# EAGLE library part AS-ITM-00069 (library tinycircuits)
CONN HEADER .100" 6POS TIN PCB
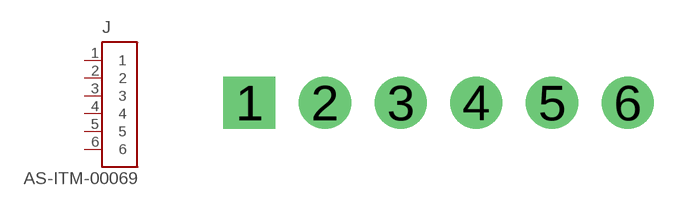
[diagram p23: symbol with the pads of 1X6_.1"_HEADER_M; footprint 1X6_.1"_HEADER_M]

Designator prefix J

## AS-ITM-00069 (PARTNO: AS-ITM-00069; VALUE: TS-106-T-A)  [1X6_.1"_HEADER_M]
1  1
2  2
3  3
4  4
5  5
6  6

## Footprint 1X6_.1"_HEADER_M (pad centres in mm)
drill 1 pad 1.75 square: 1 -6.35,0
drill 1 pad 1.75: 2 -3.81,0; 3 -1.27,0; 4 1.27,0; 5 3.81,0; 6 6.35,0